# EAGLE library part FFC10 (library dan-ffc)
FFC (flat flex cable) connector - 10 positions
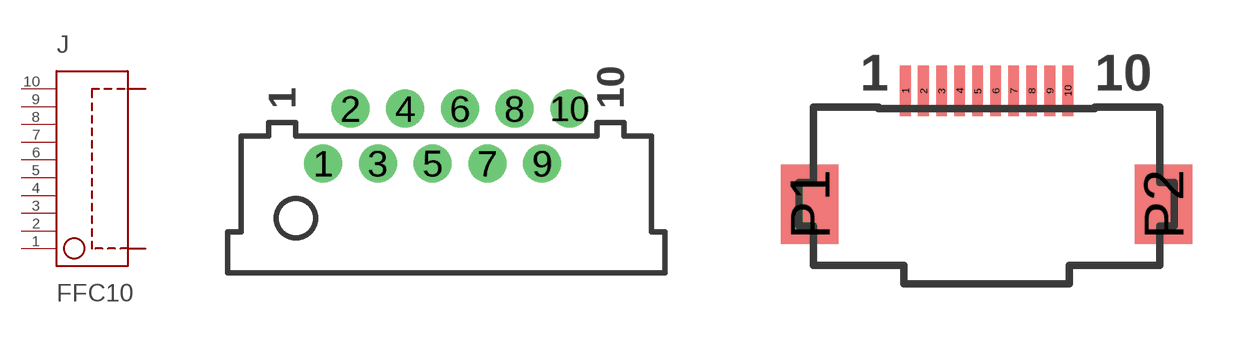
[diagram p1: symbol with the pads of SLW10R-1C7LF; footprints SLW10R-1C7LF, MOLEX-52892-1095]

Designator prefix J

## FFC10-SLW10R-1C7LF  [SLW10R-1C7LF]
1  P$1  pas
2  P$2  pas
3  P$3  pas
4  P$4  pas
5  P$5  pas
6  P$6  pas
7  P$7  pas
8  P$8  pas
9  P$9  pas
10  P$10  pas

## FFC10-52892-1095  [MOLEX-52892-1095]
Pads as for SLW10R-1C7LF

## Footprint SLW10R-1C7LF (pad centres in mm)
SLW10R-1C7LF 1mm pitch flat-flex (FFC) connector; 10 position, right-angle, zero-insertion-force
drill 0.85 pad 1.39 round: 1 -4.5,-1; 2 -3.5,1; 3 -2.5,-1; 4 -1.5,1; 5 -0.5,-1; 6 0.5,1; 7 1.5,-1; 8 2.5,1; 9 3.5,-1; 10 4.5,1

## Footprint MOLEX-52892-1095 (pad centres in mm)
Molex 52892-1095 10 conductor, 0.5mm, right-angle, surface-mount From: http://www.molex.com/pdm_docs/sd/528923095_sd.pdf
smd 0.297 x 1.4: 1 -2.25,0; 2 -1.75,0; 3 -1.25,0; 4 -0.75,0; 5 -0.25,0; 6 0.25,0; 7 0.75,0; 8 1.25,0; 9 1.75,0; 10 2.25,0
smd 1.6 x 2.2: P1 -4.9,-3.15; P2 4.9,-3.15